# EAGLE library part SA*-XC167CI (library micro-siemens)
16bit Microcontroller with MAC Unit 256KB Flash
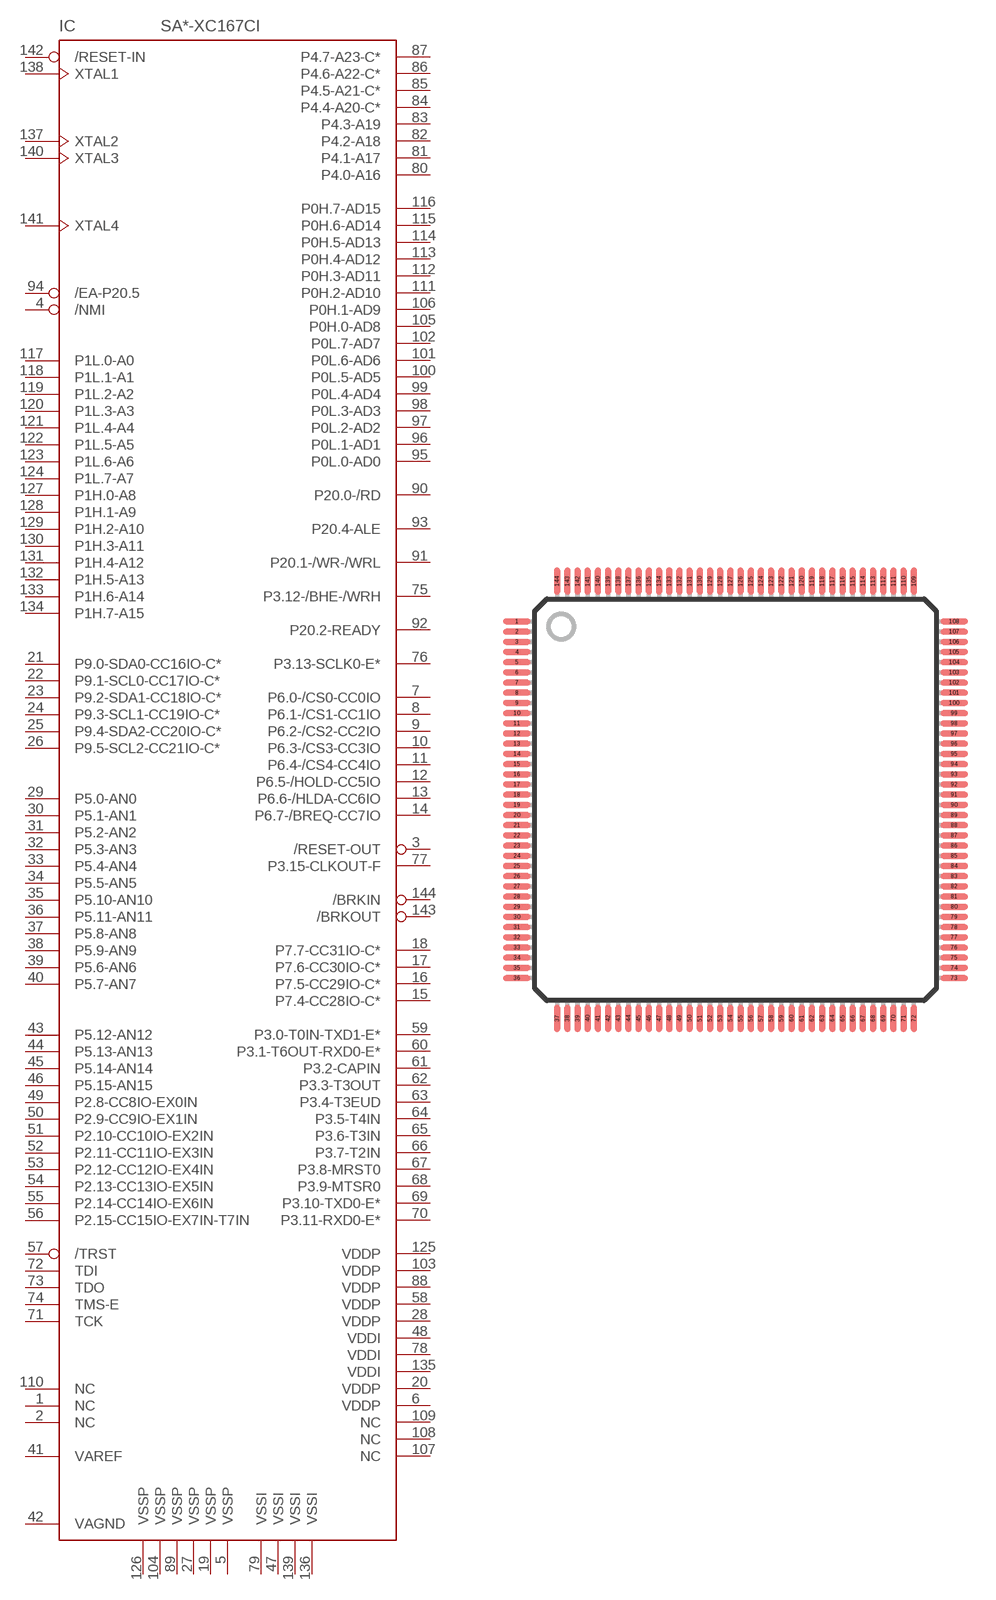
[diagram p56: symbol with the pads of P-TQFP144; footprint P-TQFP144]

Designator prefix IC

## SAB-XC167CI (OC_FARNELL: unknown; OC_NEWARK: unknown), SAF-XC167CI (OC_FARNELL: unknown; OC_NEWARK: unknown), SAK-XC167CI (OC_FARNELL: unknown; OC_NEWARK: unknown)  [P-TQFP144]
1  NC
2  NC
3  /RESET-OUT
4  /NMI
5  VSSP  pwr
6  VDDP  pwr
7  P6.0-/CS0-CC0IO
8  P6.1-/CS1-CC1IO
9  P6.2-/CS2-CC2IO
10  P6.3-/CS3-CC3IO
11  P6.4-/CS4-CC4IO
12  P6.5-/HOLD-CC5IO
13  P6.6-/HLDA-CC6IO
14  P6.7-/BREQ-CC7IO
15  P7.4-CC28IO-C*
16  P7.5-CC29IO-C*
17  P7.6-CC30IO-C*
18  P7.7-CC31IO-C*
19  VSSP  pwr
20  VDDP  pwr
21  P9.0-SDA0-CC16IO-C*
22  P9.1-SCL0-CC17IO-C*
23  P9.2-SDA1-CC18IO-C*
24  P9.3-SCL1-CC19IO-C*
25  P9.4-SDA2-CC20IO-C*
26  P9.5-SCL2-CC21IO-C*
27  VSSP  pwr
28  VDDP  pwr
29  P5.0-AN0
30  P5.1-AN1
31  P5.2-AN2
32  P5.3-AN3
33  P5.4-AN4
34  P5.5-AN5
35  P5.10-AN10
36  P5.11-AN11
37  P5.8-AN8
38  P5.9-AN9
39  P5.6-AN6
40  P5.7-AN7
41  VAREF
42  VAGND
43  P5.12-AN12
44  P5.13-AN13
45  P5.14-AN14
46  P5.15-AN15
47  VSSI  pwr
48  VDDI  pwr
49  P2.8-CC8IO-EX0IN
50  P2.9-CC9IO-EX1IN
51  P2.10-CC10IO-EX2IN
52  P2.11-CC11IO-EX3IN
53  P2.12-CC12IO-EX4IN
54  P2.13-CC13IO-EX5IN
55  P2.14-CC14IO-EX6IN
56  P2.15-CC15IO-EX7IN-T7IN
57  /TRST
58  VDDP  pwr
59  P3.0-T0IN-TXD1-E*
60  P3.1-T6OUT-RXD0-E*
61  P3.2-CAPIN
62  P3.3-T3OUT
63  P3.4-T3EUD
64  P3.5-T4IN
65  P3.6-T3IN
66  P3.7-T2IN
67  P3.8-MRST0
68  P3.9-MTSR0
69  P3.10-TXD0-E*
70  P3.11-RXD0-E*
71  TCK
72  TDI
73  TDO
74  TMS-E
75  P3.12-/BHE-/WRH
76  P3.13-SCLK0-E*
77  P3.15-CLKOUT-F
78  VDDI  pwr
79  VSSI  pwr
80  P4.0-A16
81  P4.1-A17
82  P4.2-A18
83  P4.3-A19
84  P4.4-A20-C*
85  P4.5-A21-C*
86  P4.6-A22-C*
87  P4.7-A23-C*
88  VDDP  pwr
89  VSSP  pwr
90  P20.0-/RD
91  P20.1-/WR-/WRL
92  P20.2-READY
93  P20.4-ALE
94  /EA-P20.5
95  P0L.0-AD0
96  P0L.1-AD1
97  P0L.2-AD2
98  P0L.3-AD3
99  P0L.4-AD4
100  P0L.5-AD5
101  P0L.6-AD6
102  P0L.7-AD7
103  VDDP  pwr
104  VSSP  pwr
105  P0H.0-AD8
106  P0H.1-AD9
107  NC
108  NC
109  NC
110  NC
111  P0H.2-AD10
112  P0H.3-AD11
113  P0H.4-AD12
114  P0H.5-AD13
115  P0H.6-AD14
116  P0H.7-AD15
117  P1L.0-A0
118  P1L.1-A1
119  P1L.2-A2
120  P1L.3-A3
121  P1L.4-A4
122  P1L.5-A5
123  P1L.6-A6
124  P1L.7-A7
125  VDDP  pwr
126  VSSP  pwr
127  P1H.0-A8
128  P1H.1-A9
129  P1H.2-A10
130  P1H.3-A11
131  P1H.4-A12
132  P1H.5-A13
133  P1H.6-A14
134  P1H.7-A15
135  VDDI  pwr
136  VSSI  pwr
137  XTAL2
138  XTAL1
139  VSSI  pwr
140  XTAL3
141  XTAL4
142  /RESET-IN
143  /BRKOUT
144  /BRKIN

## Footprint P-TQFP144 (pad centres in mm)
P-TQFP144 with rounded pads
smd 1.35 x 0.29: 1 -10.725,8.75; 2 -10.725,8.25; 3 -10.725,7.75; 4 -10.725,7.25; 5 -10.725,6.75; 6 -10.725,6.25; 7 -10.725,5.75; 8 -10.725,5.25; 9 -10.725,4.75; 10 -10.725,4.25; 11 -10.725,3.75; 12 -10.725,3.25; 13 -10.725,2.75; 14 -10.725,2.25; 15 -10.725,1.75; 16 -10.725,1.25; 17 -10.725,0.75; 18 -10.725,0.25; 19 -10.725,-0.25; 20 -10.725,-0.75; 21 -10.725,-1.25; 22 -10.725,-1.75; 23 -10.725,-2.25; 24 -10.725,-2.75; 25 -10.725,-3.25; 26 -10.725,-3.75; 27 -10.725,-4.25; 28 -10.725,-4.75; 29 -10.725,-5.25; 30 -10.725,-5.75; 31 -10.725,-6.25; 32 -10.725,-6.75; 33 -10.725,-7.25; 34 -10.725,-7.75; 35 -10.725,-8.25; 36 -10.725,-8.75; 73 10.725,-8.75; 74 10.725,-8.25; 75 10.725,-7.75; 76 10.725,-7.25; 77 10.725,-6.75; 78 10.725,-6.25; 79 10.725,-5.75; 80 10.725,-5.25; 81 10.725,-4.75; 82 10.725,-4.25; 83 10.725,-3.75; 84 10.725,-3.25; 85 10.725,-2.75; 86 10.725,-2.25; 87 10.725,-1.75; 88 10.725,-1.25; 89 10.725,-0.75; 90 10.725,-0.25; 91 10.725,0.25; 92 10.725,0.75; 93 10.725,1.25; 94 10.725,1.75; 95 10.725,2.25; 96 10.725,2.75; 97 10.725,3.25; 98 10.725,3.75; 99 10.725,4.25; 100 10.725,4.75; 101 10.725,5.25; 102 10.725,5.75; 103 10.725,6.25; 104 10.725,6.75; 105 10.725,7.25; 106 10.725,7.75; 107 10.725,8.25; 108 10.725,8.75
smd 0.29 x 1.35: 37 -8.75,-10.725; 38 -8.25,-10.725; 39 -7.75,-10.725; 40 -7.25,-10.725; 41 -6.75,-10.725; 42 -6.25,-10.725; 43 -5.75,-10.725; 44 -5.25,-10.725; 45 -4.75,-10.725; 46 -4.25,-10.725; 47 -3.75,-10.725; 48 -3.25,-10.725; 49 -2.75,-10.725; 50 -2.25,-10.725; 51 -1.75,-10.725; 52 -1.25,-10.725; 53 -0.75,-10.725; 54 -0.25,-10.725; 55 0.25,-10.725; 56 0.75,-10.725; 57 1.25,-10.725; 58 1.75,-10.725; 59 2.25,-10.725; 60 2.75,-10.725; 61 3.25,-10.725; 62 3.75,-10.725; 63 4.25,-10.725; 64 4.75,-10.725; 65 5.25,-10.725; 66 5.75,-10.725; 67 6.25,-10.725; 68 6.75,-10.725; 69 7.25,-10.725; 70 7.75,-10.725; 71 8.25,-10.725; 72 8.75,-10.725; 109 8.75,10.725; 110 8.25,10.725; 111 7.75,10.725; 112 7.25,10.725; 113 6.75,10.725; 114 6.25,10.725; 115 5.75,10.725; 116 5.25,10.725; 117 4.75,10.725; 118 4.25,10.725; 119 3.75,10.725; 120 3.25,10.725; 121 2.75,10.725; 122 2.25,10.725; 123 1.75,10.725; 124 1.25,10.725; 125 0.75,10.725; 126 0.25,10.725; 127 -0.25,10.725; 128 -0.75,10.725; 129 -1.25,10.725; 130 -1.75,10.725; 131 -2.25,10.725; 132 -2.75,10.725; 133 -3.25,10.725; 134 -3.75,10.725; 135 -4.25,10.725; 136 -4.75,10.725; 137 -5.25,10.725; 138 -5.75,10.725; 139 -6.25,10.725; 140 -6.75,10.725; 141 -7.25,10.725; 142 -7.75,10.725; 143 -8.25,10.725; 144 -8.75,10.725